# Altium footprint library PCM12SMTR.PcbLib: 1 footprints
Each footprint in its own frame and in the unit in brackets; x right, y up, seen from the top. Pads: shape width x height; smd on the part's side, far side on the other; paste and mask are expansions set on the pad; w line width, h text height; cw(c..) or ccw(c..) is an arc to the next point about the centre after c.
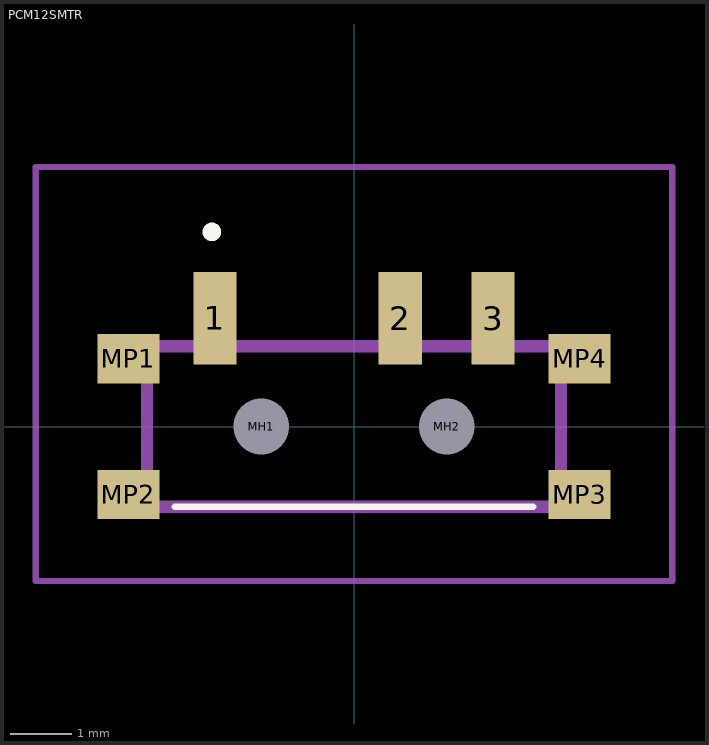
[diagram p0: the footprint, top view; thin cyan lines are the x and y axes]

## PCM12SMTR [mm]
pads (9):
  rect 0.7x1.5 smd: 1(-2.25,1.75) 2(0.75,1.75) 3(2.25,1.75)
  round 0.45 hole 0.9 unplated: MH1(-1.5,0) MH2(1.5,0)
  rect 1x0.8 smd: MP1(-3.65,1.1) MP2(-3.65,-1.1) MP3(3.65,-1.1) MP4(3.65,1.1)
Top Overlay:
  lines w0.1: -2.9,-1.3 2.9,-1.3
  lines w0.2: -2.3,3.1 cw(c-2.3,3.15) -2.3,3.2 ; -2.3,3.1 -2.3,3.1 ; -2.3,3.1 ccw(c-2.3,3.15) -2.3,3.2 ; -2.3,3.1 cw(c-2.3,3.15) -2.3,3.2 ; -2.3,3.2 -2.3,3.2 ; -2.3,3.2 -2.3,3.2
Mechanical 15:
  lines w0.2: -3.35,-1.3 3.35,-1.3 3.35,1.3 -3.35,1.3 -3.35,-1.3
Mechanical 20:
  lines w0.1: -5.15,-2.5 5.15,-2.5 5.15,4.2 -5.15,4.2 -5.15,-2.5